# Altium schematic symbol library TMC2590-TA.SchLib: 1 symbol
Pins are listed as number, name and electrical type; pins without a type are passive.

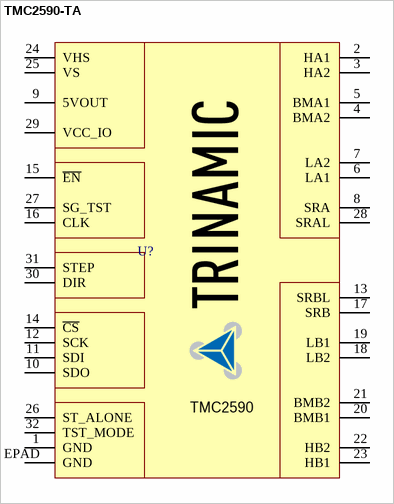
[diagram p0: symbol TMC2590-TA]

## TMC2590-TA
designator U?
=Description
pins: 1 GND, 2 HA1, 3 HA2, 4 BMA2, 5 BMA1, 6 LA1, 7 LA2, 8 SRA, 9 5VOUT, 10 SDO, 11 SDI, 12 SCK, 13 SRBL, 14 ~{CS}, 15 ~{EN}, 16 CLK, 17 SRB, 18 LB2, 19 LB1, 20 BMB1, 21 BMB2, 22 HB2, 23 HB1, 24 VHS, 25 VS, 26 ST_ALONE, 27 SG_TST, 28 SRAL, 29 VCC_IO, 30 DIR, 31 STEP, 32 TST_MODE, EPAD GND
text: TMC2590